# EAGLE library part SN74LVC245AN (library Unclear)
SN74LVC245AN
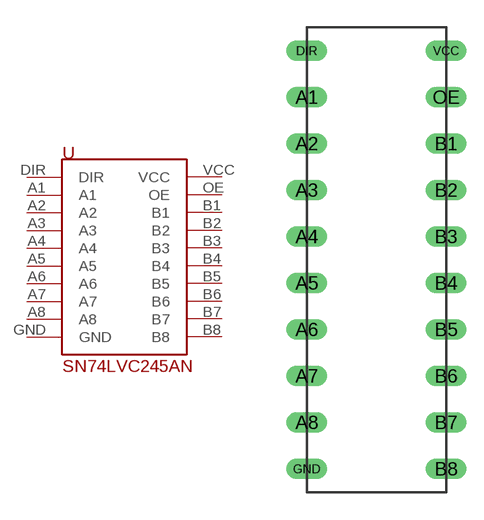
[diagram p2: symbol with the pads of SN74LVC245AN; footprint SN74LVC245AN]

Designator prefix -

## SN74LVC245AN (UNIT_PRICE: 0.64; VENDOR_ID: RS Components; VENDOR_SKU: 663-2868)  [SN74LVC245AN]
A1  A1
A2  A2
A3  A3
A4  A4
A5  A5
A6  A6
A7  A7
A8  A8
B1  B1
B2  B2
B3  B3
B4  B4
B5  B5
B6  B6
B7  B7
B8  B8
DIR  DIR
GND  GND
OE  OE
VCC  VCC

## Footprint SN74LVC245AN (pad centres in mm)
SN74LVC245AN
drill 0.6 long: A1 0,20.32; A2 0,17.78; A3 0,15.24; A4 0,12.7; A5 0,10.16; A6 0,7.62; A7 0,5.08; A8 0,2.54; B1 7.62,17.78; B2 7.62,15.24; B3 7.62,12.7; B4 7.62,10.16; B5 7.62,7.62; B6 7.62,5.08; B7 7.62,2.54; B8 7.62,0; DIR 0,22.86; GND 0,0; OE 7.62,20.32; VCC 7.62,22.86